# Altium schematic symbol library CMC-2742PBJ-A.SchLib: 1 symbol
Pins are listed as number, name and electrical type; pins without a type are passive.

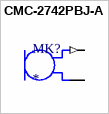
[diagram p0: symbol CMC-2742PBJ-A]

## CMC-2742PBJ-A
designator MK?
6.0 mm, Omnidirectional, PCB Mount, 2.0 Vdc, Electret Condenser Microphone; MP: CMC-2742PBJ-A; Package: None; Price: None; Value: *; Availability: Unavailable
footprint CUI_CMC-2742PBJ-A
pins: GND (power), OUT (out)